# Altium schematic symbol library TranFet.SchLib: 12 symbols
Pins are listed as number, name and electrical type; pins without a type are passive.

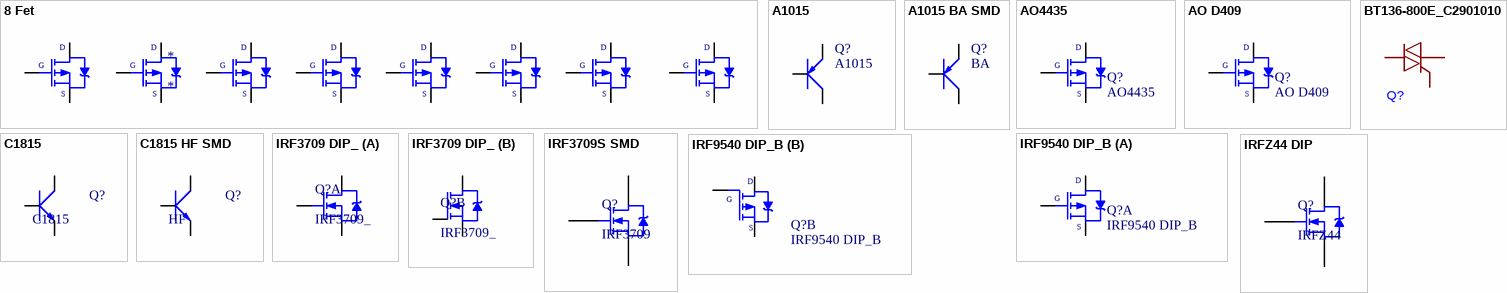
[diagram p0: symbols 8 Fet to IRFZ44 DIP]

## 8 Fet
designator *
footprint 8 FET
pins: 1 G, 2 D, 3 S, 4 G, 5 D, 6 S, 7 G, 8 D, 9 S, 10 G, 11 D, 12 S, 13 G, 14 D, 15 S, 16 G, 17 D, 18 S, 19 G, 20 D, 21 S, 22 G, 23 D, 24 S

## A1015
designator Q?
PNP 600mW, ECB; Value: A1015
footprint TO92 (TO-92)
pins: 1 E, 2 C, 3 B

## A1015 BA SMD
designator Q?, comment BA
PNP 600mW, ECB
footprint SOT23
pins: 1 B, 2 E, 3 C

## AO4435
designator Q?
P-Channel MOSFET 30V 8A; Note: Pin 2 is electrically connected to pin 4.; Published: 8-Jun-2000; LatestRevisionDate: 17-Jul-2002; LatestRevisionNote: Re-released for DXP Platform.; DatasheetVersion: PD-9.421C; PackageVersion: Feb-1997; PackageReference: TO-220AB; Publisher: Altium Limited; PackageDescription: TO, Thru-Hole, Vertical, Heatsink Mounted; 3 In-Line Leads; Pitch 2.54 mm; ComponentLink1Description: Manufacturer Link; ComponentLink1URL: http://www.irf.com/; ComponentLink2Description: Datasheet; ComponentLink2URL: http://www.irf.com/product-info/datasheets/data/irf9540.pdf
footprint AO4435 (SOIC)
pins: D, G, S

## AO D409
designator Q?
P-Channel Power MOSFET; Note: Pin 2 is electrically connected to pin 4.; Published: 8-Jun-2000; LatestRevisionDate: 17-Jul-2002; LatestRevisionNote: Re-released for DXP Platform.; DatasheetVersion: PD-9.421C; PackageVersion: Feb-1997; PackageReference: TO-220AB; Publisher: Altium Limited; PackageDescription: TO, Thru-Hole, Vertical, Heatsink Mounted; 3 In-Line Leads; Pitch 2.54 mm; ComponentLink1Description: Manufacturer Link; ComponentLink1URL: http://www.irf.com/; ComponentLink2Description: Datasheet; ComponentLink2URL: http://www.irf.com/product-info/datasheets/data/irf9540.pdf
footprint TO-252-3_L6.6-W6.1-P4.57-LS9.9-BR-CW
pins: 1 G, 2 D, 3 S

## BT136-800E_C2901010
designator Q?  (value not drawn)
footprint TO-252-3_L6.6-W6.1-P4.57-LS9.9-BR-CW
pins: 1 T1, 2 T2, 3 G

## C1815
designator Q?
NPN transistor; Value: C9014
footprint TO92 (TO-92)
pins: 1 E, 2 C, 3 B

## C1815 HF SMD
designator Q?, comment HF
NPN transistor; Value: C9014
footprint SOT23
pins: 1 B, 2 E, 3 C

## IRF3709 DIP_
designator Q?, comment IRF3709_
N-Channel Power MOSFET
footprint TO220 - H - duplicate (TO-220)
part A pins: 1 G, 2 D, 3 S
part B pins: 1 G, 2 D, 3 S

## IRF3709S SMD
designator Q?, comment IRF3709
N-Channel Power MOSFET
footprint D2PAK
pins: 1 G, 2 D, 3 S

## IRF9540 DIP_B
designator Q?
P-Channel Power MOSFET; Note: Pin 2 is electrically connected to pin 4.; Published: 8-Jun-2000; LatestRevisionDate: 17-Jul-2002; LatestRevisionNote: Re-released for DXP Platform.; DatasheetVersion: PD-9.421C; PackageVersion: Feb-1997; PackageReference: TO-220AB; Publisher: Altium Limited; PackageDescription: TO, Thru-Hole, Vertical, Heatsink Mounted; 3 In-Line Leads; Pitch 2.54 mm; ComponentLink1Description: Manufacturer Link; ComponentLink1URL: http://www.irf.com/; ComponentLink2Description: Datasheet; ComponentLink2URL: http://www.irf.com/product-info/datasheets/data/irf9540.pdf
footprint TO220 - H - duplicate (TO-220)
footprint TO220_A (TO-220_A)
part A pins: 1 G, 2 D, 3 S
part B pins: 1 G, 2 D, 3 S

## IRFZ44 DIP
designator Q?, comment IRFZ44
N-Channel Power MOSFET
footprint TO220 (TO-220)
pins: 1 G, 2 D, 3 S